# Altium footprint library transformer.PcbLib: 4 footprints
Each footprint in its own frame and in the unit in brackets; x right, y up, seen from the top. Pads: shape width x height; smd on the part's side, far side on the other; paste and mask are expansions set on the pad; w line width, h text height; cw(c..) or ccw(c..) is an arc to the next point about the centre after c.
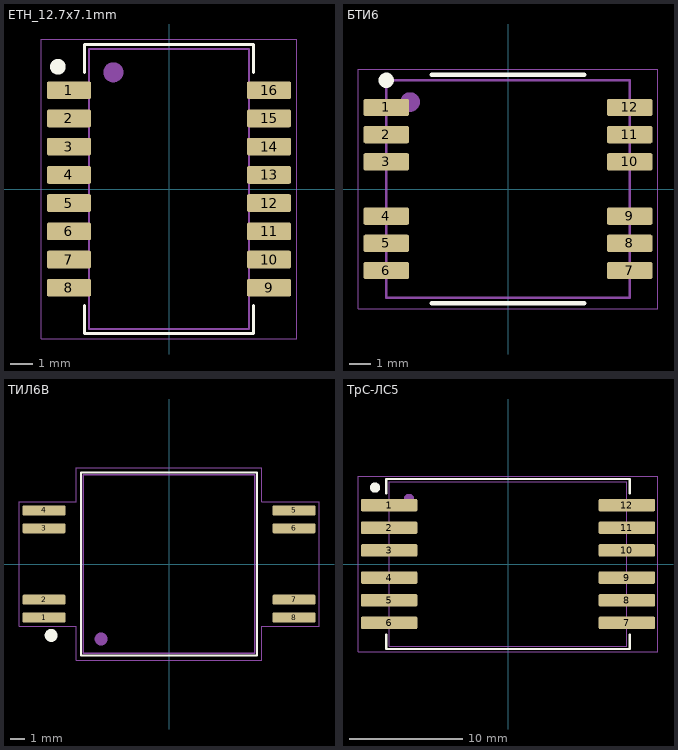
[diagram p0: the footprints below, top view; thin cyan lines are the x and y axes]

## ETH_12.7x7.1mm [mm]
height 5
pads (16):
  rrect25% 2x0.8 smd: 1(-4.5,4.445) 2(-4.5,3.175) 3(-4.5,1.905) 4(-4.5,0.635) 5(-4.5,-0.635) 6(-4.5,-1.905) 7(-4.5,-3.175) 8(-4.5,-4.445) 9(4.5,-4.445) 10(4.5,-3.175) 11(4.5,-1.905) 12(4.5,-0.635) 13(4.5,0.635) 14(4.5,1.905) 15(4.5,3.175) 16(4.5,4.445)
Top Overlay:
  circle w0.5: c-5,5.5 r0.1
  lines w0.15: -3.8,-5.25 -3.8,-6.5 3.8,-6.5 3.8,-5.25 ; -3.8,5.25 -3.8,6.5 3.8,6.5 3.8,5.25
Top Assy:
  circle w0.5: c-2.5,5.25 r0.2
  lines w0.1: -3.6,-6.3 3.6,-6.3 3.6,6.3 -3.6,6.3 -3.6,-6.3
Top Cortyard:
  lines w0.05: -5.75,-6.75 5.75,-6.75 5.75,6.75 -5.75,6.75 -5.75,-6.75
3D body "HX1188NLT.stp": height 5.92, standoff -0.05, extent -4.765,-6.35 4.765,6.35

## БТИ6 [mm]
pads (12):
  rrect25% 2.1x0.8 smd: 1(-5.6,3.75) 2(-5.6,2.5) 3(-5.6,1.25) 4(-5.6,-1.25) 5(-5.6,-2.5) 6(-5.6,-3.75) 7(5.6,-3.75) 8(5.6,-2.5) 9(5.6,-1.25) 10(5.6,1.25) 11(5.6,2.5) 12(5.6,3.75)
Top Overlay:
  circle w0.5: c-5.6,5 r0.1
  lines w0.2: -3.5,-5.25 3.5,-5.25 ; -3.5,5.25 3.5,5.25
Top Assy:
  circle w0.5: c-4.5,4 r0.2
  lines w0.1: -5.6,-5 5.6,-5 5.6,5 -5.6,5 -5.6,-5
Top Cortyard:
  lines w0.05: -6.9,-5.5 6.9,-5.5 6.9,5.5 -6.9,5.5 -6.9,-5.5

## ТИЛ6В [mm]
height 6.5
pads (8):
  rrect25% 3x0.7 smd: 1(-8.75,-3.75) 2(-8.75,-2.5) 3(-8.75,2.5) 4(-8.75,3.75) 5(8.75,3.75) 6(8.75,2.5) 7(8.75,-2.5) 8(8.75,-3.75)
Top Overlay:
  circle w0.5: c-8.25,-5 r0.2
  lines w0.15: -6.15,-6.4 6.15,-6.4 6.15,6.4 -6.15,6.4 -6.15,-6.4
Top Assy:
  circle w0.5: c-4.75,-5.25 r0.2
  lines w0.1: -6,-6.25 6,-6.25 6,6.25 -6,6.25 -6,-6.25
Top Cortyard:
  lines w0.05: -10.5,-4.35 -6.5,-4.35 -6.5,-6.75 6.5,-6.75 6.5,-4.35 10.5,-4.35 10.5,4.35 6.5,4.35 6.5,6.75 -6.5,6.75 -6.5,4.35 -10.5,4.35 -10.5,-4.35
3D body "ТИЛ6В.stp": height 6.71, standoff 0.2, extent -6,-6.25 6,6.25

## ТрС-ЛС5 [mm]
height 6.5
pads (12):
  rrect25% 5x1.1 smd: 1(-10.5,5.2) 2(-10.5,3.2) 3(-10.5,1.2) 4(-10.5,-1.2) 5(-10.5,-3.2) 6(-10.5,-5.2) 7(10.5,-5.2) 8(10.5,-3.2) 9(10.5,-1.2) 10(10.5,1.2) 11(10.5,3.2) 12(10.5,5.2)
Top Overlay:
  circle w0.5: c-11.75,6.75 r0.2
  lines w0.2: -10.75,-6.25 -10.75,-7.5 10.75,-7.5 10.75,-6.25 ; -10.75,6.25 -10.75,7.5 10.75,7.5 10.75,6.25
Top Assy:
  circle w0.5: c-8.75,5.75 r0.2
  lines w0.1: -10.5,-7.25 -10.5,7.25 10.5,7.25 10.5,-7.25 -10.5,-7.25
Top Cortyard:
  lines w0.05: -13.25,-7.75 -13.25,7.75 13.25,7.75 13.25,-7.75 -13.25,-7.75